# EAGLE library part LM339DR2G (library ON_Semiconductor_By_element14_Batch_1)
Single Supply Quad Comparators
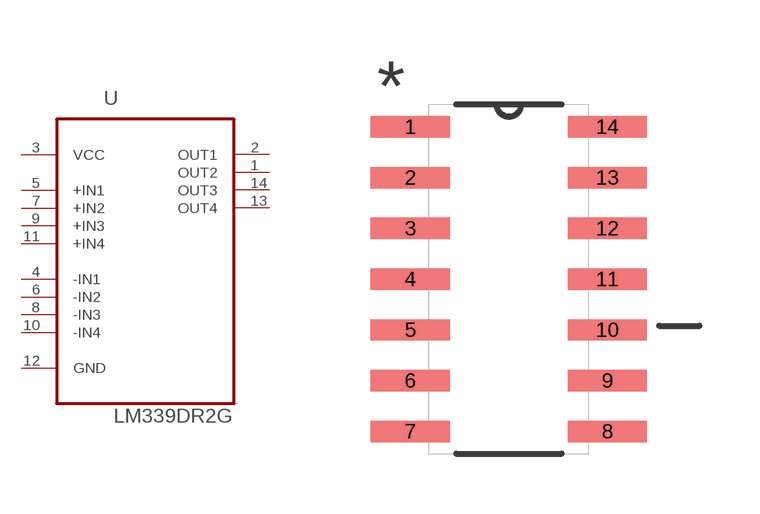
[diagram p59: symbol with the pads of SOIC127P600X175-14N; footprint SOIC127P600X175-14N]

Designator prefix U

## LM339DR2G (MPN: LM339DR2G; OC_FARNELL: 1651910; OC_NEWARK: 17H1559; PACKAGE: SOIC-14; SUPPLIER: ON SEMICONDUCTOR)  [SOIC127P600X175-14N]
1  OUT2  out
2  OUT1  out
3  VCC  in
4  -IN1  in
5  +IN1  in
6  -IN2  in
7  +IN2  in
8  -IN3  in
9  +IN3  in
10  -IN4  in
11  +IN4  in
12  GND  pas
13  OUT4  out
14  OUT3  out

## Footprint SOIC127P600X175-14N (pad centres in mm)
smd 1.981 x 0.533: 1 -2.464,3.81; 2 -2.464,2.54; 3 -2.464,1.27; 4 -2.464,0; 5 -2.464,-1.27; 6 -2.464,-2.54; 7 -2.464,-3.81; 8 2.464,-3.81; 9 2.464,-2.54; 10 2.464,-1.27; 11 2.464,0; 12 2.464,1.27; 13 2.464,2.54; 14 2.464,3.81